# Altium schematic symbol library P_HEADER_1x5.SchLib: 1 symbol
Pins are listed as number, name and electrical type; pins without a type are passive.

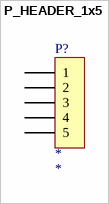
[diagram p0: symbol P_HEADER_1x5]

## P_HEADER_1x5
designator P?
Pin Header; SCH_Footprint: *; Value: *
pins: 1, 2, 3, 4, 5